# EAGLE library part BQ7790512PWR (library ruark2)
3-5S Stackable to 20S Battery protection IC. 2.8V to 4.175V
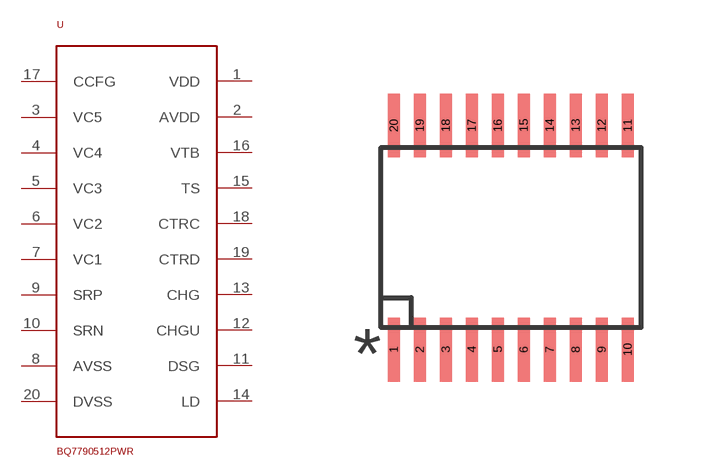
[diagram p62: symbol with the pads of TSSOP20; footprint TSSOP20]

Designator prefix U

## BQ7790512PWR (PARTNO: 296-50465-1-ND)  [TSSOP20]
1  VDD
2  AVDD
3  VC5
4  VC4
5  VC3
6  VC2
7  VC1
8  AVSS
9  SRP
10  SRN
11  DSG
12  CHGU
13  CHG
14  LD
15  TS
16  VTB
17  CCFG
18  CTRC
19  CTRD
20  DVSS

## Footprint TSSOP20 (pad centres in mm)
smd 0.3 x 1.6: 1 -2.925,-2.8; 2 -2.275,-2.8; 3 -1.625,-2.8; 4 -0.975,-2.8; 5 -0.325,-2.8; 6 0.325,-2.8; 7 0.975,-2.8; 8 1.625,-2.8; 9 2.275,-2.8; 10 2.925,-2.8; 11 2.925,2.8; 12 2.275,2.8; 13 1.625,2.8; 14 0.975,2.8; 15 0.325,2.8; 16 -0.325,2.8; 17 -0.975,2.8; 18 -1.625,2.8; 19 -2.275,2.8; 20 -2.925,2.8